# EAGLE library part KA34063ADTF (library Fairchild_By_element14_Batch_1)
SMPS Controller
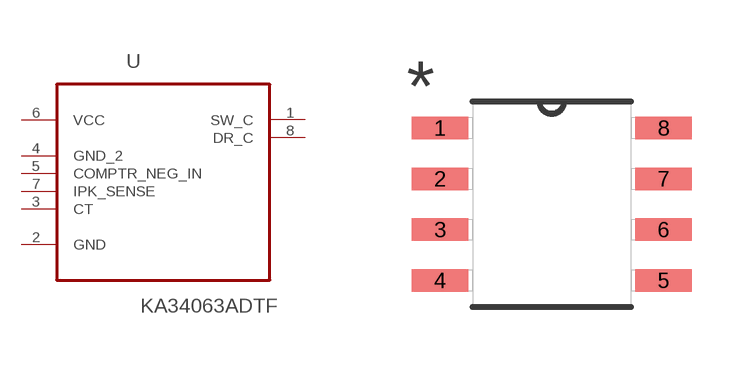
[diagram p199: symbol with the pads of SOP127P600X175-8N; footprint SOP127P600X175-8N]

Designator prefix U

## KA34063ADTF (MPN: KA34063ADTF; OC_FARNELL: 1212947; OC_NEWARK: 01M8037; PACKAGE: SOIC-8; SUPPLIER: FAIRCHILD SEMICONDUCTOR)  [SOP127P600X175-8N]
1  SW_C  out
2  GND  pas
3  CT  in
4  GND_2  pas
5  COMPTR_NEG_IN  in
6  VCC  pwr
7  IPK_SENSE  in
8  DR_C  out

## Footprint SOP127P600X175-8N (pad centres in mm)
smd 1.422 x 0.559: 1 -2.794,1.905; 2 -2.794,0.635; 3 -2.794,-0.635; 4 -2.794,-1.905; 5 2.794,-1.905; 6 2.794,-0.635; 7 2.794,0.635; 8 2.794,1.905